# EAGLE library part PINHEAD_1X13 (library pinhead)
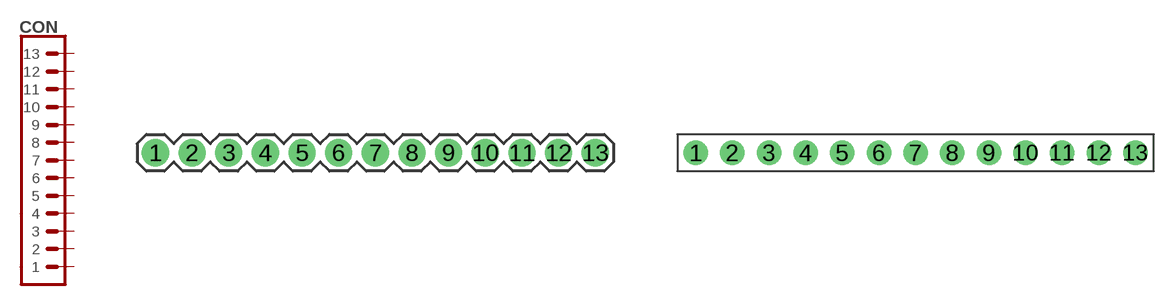
[diagram p15: symbol with the pads of PLS13; footprints PLS13, PBS13]

Designator prefix CON

## PINHEAD_1X13-2.54  [PLS13]
1  1  pas
2  2  pas
3  3  pas
4  4  pas
5  5  pas
6  6  pas
7  7  pas
8  8  pas
9  9  pas
10  10  pas
11  11  pas
12  12  pas
13  13  pas

## PINHEAD_1X13-2.54-FEMALE  [PBS13]
Pads as for PLS13

## Footprint PLS13 (pad centres in mm)
3D model <https://grabcad.com/library/pls-connectors-1>
drill 1 pad 1.88: 1 -15.24,0; 2 -12.7,0; 3 -10.16,0; 4 -7.62,0; 5 -5.08,0; 6 -2.54,0; 7 0,0; 8 2.54,0; 9 5.08,0; 10 7.62,0; 11 10.16,0; 12 12.7,0; 13 15.24,0

## Footprint PBS13 (pad centres in mm)
3D model <https://grabcad.com/library/pbs-connectors-1>
drill 1 pad 1.7: 1 -15.24,0; 2 -12.7,0; 3 -10.16,0; 4 -7.62,0; 5 -5.08,0; 6 -2.54,0; 7 0,0; 8 2.54,0; 9 5.08,0; 10 7.62,0; 11 10.16,0; 12 12.7,0; 13 15.24,0